# EAGLE library part MODESP12 (library mECustom)
ESP8266 ESP-12 ESP8266 ESP12 Module Module
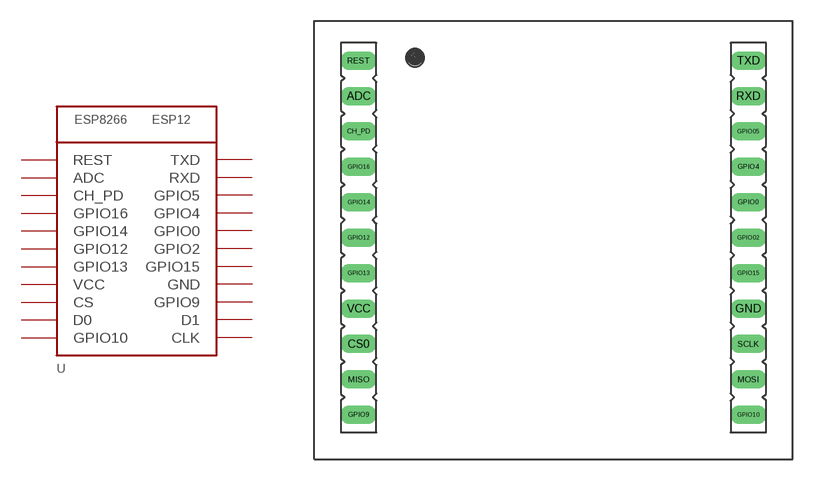
[diagram p10: symbol with the pads of ESP12BIG; footprint ESP12BIG]

Designator prefix -

## MODESP12  [ESP12BIG]
ADC  ADC
CH_PD  CH_PD
CS0  CS
GND  GND
GPIO0  GPIO0
GPIO02  GPIO2
GPIO4  GPIO4
GPIO05  GPIO5
GPIO9  GPIO9
GPIO10  GPIO10
GPIO12  GPIO12
GPIO13  GPIO13
GPIO14  GPIO14
GPIO15  GPIO15
GPIO16  GPIO16
MISO  D0
MOSI  D1
REST  REST
RXD  RXD
SCLK  CLK
TXD  TXD
VCC  VCC

## Footprint ESP12BIG (pad centres in mm)
drill 0.813 long: ADC 3.175,26.035; CH_PD 3.175,23.495; CS0 3.175,8.255; GND 31.115,10.795; GPIO0 31.115,18.415; GPIO02 31.115,15.875; GPIO4 31.115,20.955; GPIO05 31.115,23.495; GPIO9 3.175,3.175; GPIO10 31.115,3.175; GPIO12 3.175,15.875; GPIO13 3.175,13.335; GPIO14 3.175,18.415; GPIO15 31.115,13.335; GPIO16 3.175,20.955; MISO 3.175,5.715; MOSI 31.115,5.715; REST 3.175,28.575; RXD 31.115,26.035; SCLK 31.115,8.255; TXD 31.115,28.575; VCC 3.175,10.795